# Altium footprint library sm_transistor.PcbLib: 3 footprints
Each footprint in its own frame and in the unit in brackets; x right, y up, seen from the top. Pads: shape width x height; smd on the part's side, far side on the other; paste and mask are expansions set on the pad; w line width, h text height; cw(c..) or ccw(c..) is an arc to the next point about the centre after c.
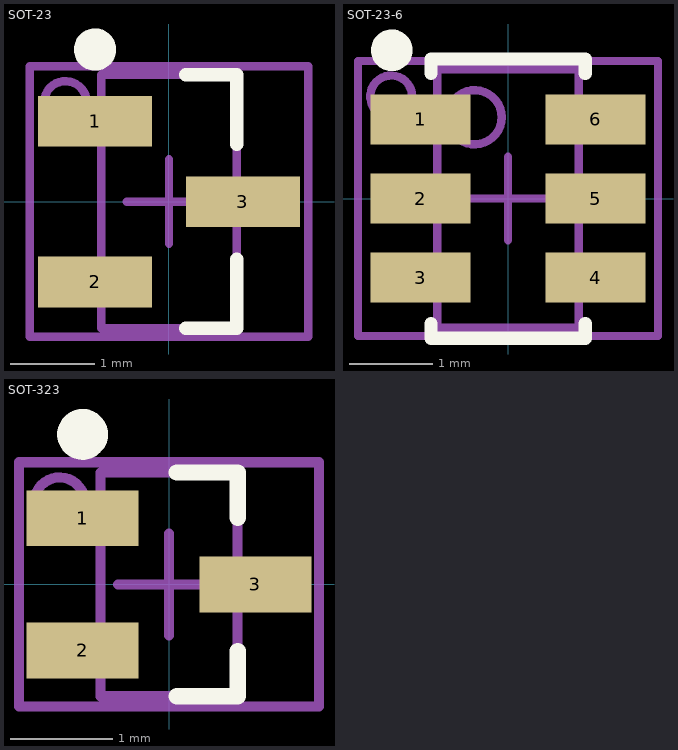
[diagram p0: the footprints below, top view; thin cyan lines are the x and y axes]

## SOT-23 [mm] "SOT23, 3-Leads, Body 3.0x2.8mm (max), Pitch 0.95mm, IPC High Density"
height 1.4
pads (3):
  rect 1.35x0.6 smd: 1(-0.875,0.95) 2(-0.875,-0.95) 3(0.875,0)
Top Overlay:
  circle w0.25: c-0.875,1.8 r0.125
  lines w0.16: 0.2,-1.5 0.8,-1.5 0.8,-0.68 ; 0.2,1.5 0.8,1.5 0.8,0.68
Mechanical 13:
  lines w0.1: -0.5,0 0.5,0 ; 0,-0.5 0,0.5 ; -0.8,-1.5 -0.8,1.5 0.8,1.5 0.8,-1.5 -0.8,-1.5
Mechanical 15:
  circle w0.1: c-1.226,1.175 r0.251
  lines w0.1: -1.65,-1.6 -1.65,1.6 1.65,1.6 1.65,-1.6 -1.65,-1.6
  text ".Designator" at -0.2,1.325 h0.5
3D body: height 1, standoff -0.02, extent -1.231,-1.46 1.245,1.46

## SOT-23-6 [mm]
height 1.1
pads (6):
  rect 1.2x0.6 smd: 1(-1.05,0.95) 2(-1.05,0) 3(-1.05,-0.95) 4(1.05,-0.95) 5(1.05,0) 6(1.05,0.95)
Top Overlay:
  circle w0.25: c-1.395,1.778 r0.125
  lines w0.16: -0.925,-1.5 -0.925,-1.675 0.925,-1.675 0.925,-1.5 ; -0.925,1.5 -0.925,1.675 0.925,1.675 0.925,1.5
Mechanical 13:
  circle w0.1: c-0.4,0.975 r0.325
  lines w0.1: -0.5,0 0.5,0 ; 0,-0.5 0,0.5 ; -0.85,-1.55 0.85,-1.55 0.85,1.55 -0.85,1.55 -0.85,-1.55
Mechanical 15:
  circle w0.1: c-1.401,1.225 r0.251
  lines w0.1: -1.8,-1.65 1.8,-1.65 1.8,1.65 -1.8,1.65 -1.8,-1.65
  text ".Designator" at -0.275,1.375 h0.5
3D body: height 1.09, standoff 0, extent -1.163,-1.4 1.263,1.394

## SOT-323 [mm] "SC-70/SOT323"
height 1
pads (3):
  rect 1.1x0.55 smd: 1(-0.85,0.65) 2(-0.85,-0.65) 3(0.85,0)
Top Overlay:
  circle w0.25: c-0.85,1.475 r0.125
  lines w0.16: 0.075,-1.1 0.675,-1.1 0.675,-0.655 ; 0.075,1.1 0.675,1.1 0.675,0.655
Mechanical 13:
  lines w0.1: -0.5,0 0.5,0 ; 0,-0.5 0,0.5 ; -0.675,-1.1 0.675,-1.1 0.675,1.1 -0.675,1.1 -0.675,-1.1
Mechanical 15:
  circle w0.1: c-1.076,0.8 r0.251
  lines w0.1: -1.475,-1.2 1.475,-1.2 1.475,1.2 -1.475,1.2 -1.475,-1.2
  text ".Designator" at -0.225,0.975 h0.5
3D body: height 0.9, standoff 0, extent -1.05,-1.05 1.05,1.05